# Altium schematic symbol library Demo.SchLib: 24 symbols
Pins are listed as number, name and electrical type; pins without a type are passive.

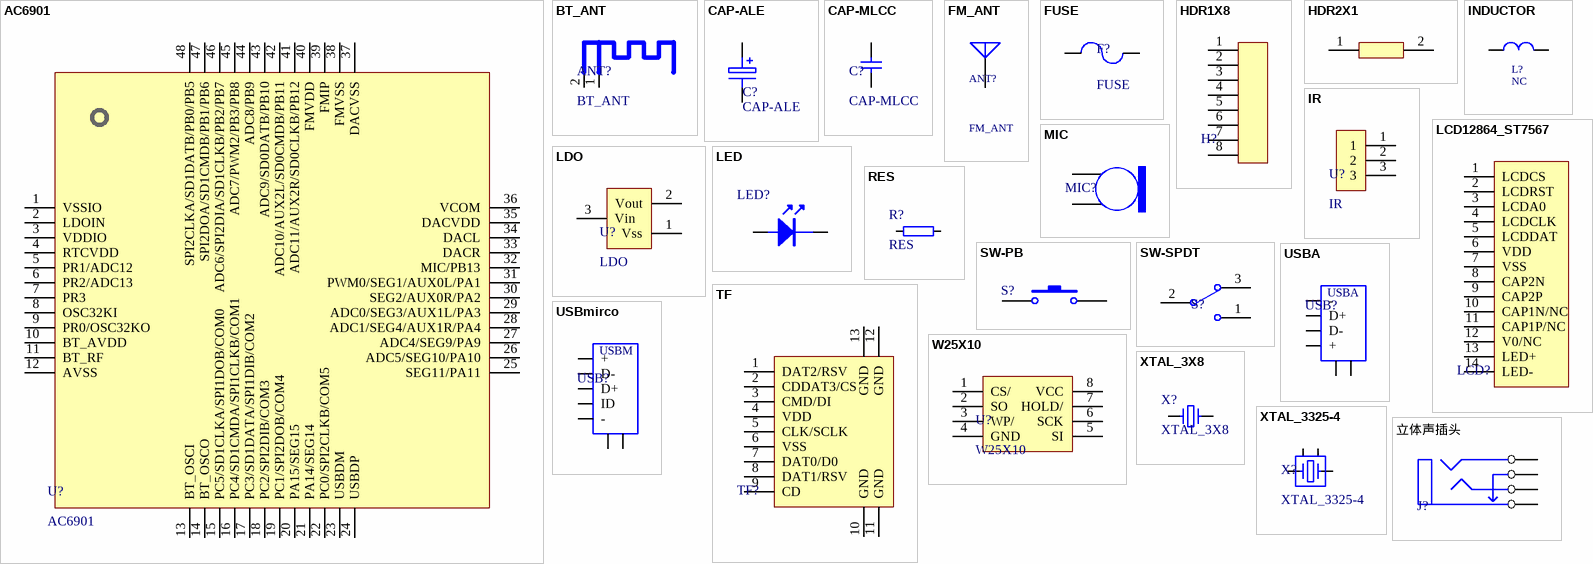
[diagram p0: symbols AC6901 to 立体声插头]

## AC6901
designator U?
footprint LQPF48
pins: 1 VSSIO (power), 2 LDOIN (power), 3 VDDIO, 4 RTCVDD, 5 PR1/ADC12, 6 PR2/ADC13, 7 PR3, 8 OSC32KI, 9 PR0/OSC32KO, 10 BT_AVDD, 11 BT_RF, 12 AVSS, 13 BT_OSCI, 14 BT_OSCO, 15 PC5/SD1CLKA/SPI1DOB/COM0, 16 PC4/SD1CMDA/SPI1CLKB/COM1, 17 PC3/SD1DATA/SPI1DIB/COM2, 18 PC2/SPI2DIB/COM3, 19 PC1/SPI2DOB/COM4, 20 PA15/SEG15, 21 PA14/SEG14, 22 PC0/SPI2CLKB/COM5, 23 USBDM, 24 USBDP, 25 SEG11/PA11, 26 ADC5/SEG10/PA10, 27 ADC4/SEG9/PA9, 28 ADC1/SEG4/AUX1R/PA4, 29 ADC0/SEG3/AUX1L/PA3, 30 SEG2/AUX0R/PA2, 31 PWM0/SEG1/AUX0L/PA1, 32 MIC/PB13, 33 DACR, 34 DACL, 35 DACVDD, 36 VCOM, 37 DACVSS, 38 FMVSS, 39 FMIP, 40 FMVDD, 41 ADC11/AUX2R/SD0CLKB/PB12, 42 ADC10/AUX2L/SD0CMDB/PB11, 43 ADC9/SD0DATB/PB10, 44 ADC8/PB9, 45 ADC7/PWM2/PB3/PB8, 46 ADC6/SPI2DIA/SD1CLKB/PB2/PB7, 47 SPI2DOA/SD1CMDB/PB1/PB6, 48 SPI2CLKA/SD1DATB/PB0/PB5

## BT_ANT
designator ANT?
footprint ANT-F-2-2.4G
pins: 1, 2

## CAP-ALE
designator C?
footprint CTan(6032) (长6.0mm，宽3.2mm，厚2.5mm)
pins: 1, 2

## CAP-MLCC
designator C?
footprint C 0805 (无极性贴片电容)
pins: 1, 2

## FM_ANT
designator ANT?
footprint FM_ANT
pins: 1

## FUSE
designator F?
footprint F1808
pins: 1, 2

## HDR1X8
designator H?  (value not drawn)
footprint HDR1X8
pins: 1, 2, 3, 4, 5, 6, 7, 8

## HDR2X1
designator H?  (value not drawn)
footprint HDR2X1
pins: 1, 2

## INDUCTOR
designator L?, comment NC
footprint L 0805 (小功率贴片电感)
pins: 1, 2

## IR
designator U?
footprint IR
pins: 1, 2, 3

## LCD12864_ST7567
designator LCD?  (value not drawn)
footprint FPC-SMD_P0.80-14P
pins: 1 LCDCS, 2 LCDRST, 3 LCDA0, 4 LCDCLK, 5 LCDDAT, 6 VDD, 7 VSS, 8 CAP2N, 9 CAP2P, 10 CAP1N/NC, 11 CAP1P/NC, 12 V0/NC, 13 LED+, 14 LED-

## LDO
designator U?
footprint SOT23-3L (3x1.3x1mm(长宽高))
pins: 1 Vss, 2 Vout, 3 Vin

## LED
designator LED?  (value not drawn)
footprint LED 0805B (蓝色0805LED                                    淘宝ID:黄晶宝石)
pins: 1, 2

## MIC
designator MIC?  (value not drawn)
footprint MIC
pins: 1 (power), 2 (power)

## RES
designator R?
footprint R 0805 (1/8W贴片电阻)
pins: 1, 2

## SW-PB
designator S?  (value not drawn)
Published: 24-Mar-1999; LatestRevisionDate: 17-Jul-2002; LatestRevisionNote: Re-released for DXP Platform.; PackageReference: SPST-2; Publisher: Altium Limited
footprint TSW SMD-3*6*2.5 (3*6*2.5mm)
pins: 1, 2

## SW-SPDT
designator S?  (value not drawn)
Published: 24-Mar-1999; LatestRevisionDate: 17-Dec-2003; LatestRevisionNote: Schematic revised, PCB Footprint replaced.; DatasheetDocument: 05-Dec-2000; PackageReference: TL36WW15050; Publisher: Altium Limited; ComponentLink1Description: Manufacturer Link; ComponentLink1URL: http://www.apem.com
footprint MSK-12C01-07 (拨动开关6.7*2.8*1.5mm(长宽高）)
pins: 1, 2, 3

## TF
designator TF?  (value not drawn)
footprint TF
pins: 1 DAT2/RSV, 2 CDDAT3/CS, 3 CMD/DI, 4 VDD, 5 CLK/SCLK, 6 VSS, 7 DAT0/D0, 8 DAT1/RSV, 9 CD, 10 GND, 11 GND, 12 GND, 13 GND

## USBA
designator USB?  (value not drawn)
footprint USB-A
pins: 1 +, 2 D-, 3 D+, 4 -, 5 GND, 5 GND

## USBmirco
designator USB?  (value not drawn)
footprint USB_micro (micro型USB ，5.7*7.8*2.5mm)
pins: 1 +, 2 D-, 3 D+, 4 ID, 5 -, GND, GND
text: USBM

## W25X10
designator U?
footprint SOIC8
pins: 1 CS/, 2 SO, 3 WP/, 4 GND, 5 SI, 6 SCK, 7 HOLD/, 8 VCC

## XTAL_3X8
designator X?
footprint XTAL_3X8 (脚距：2mm)
pins: 1, 2

## XTAL_3325-4
designator X?
footprint XTAL_3225-4P (3.2*2.5*0.7mm(长宽高))
pins: 1, 2, 3, 4

## 立体声插头
designator J?, comment 3.5mm  (value not drawn)
footprint AUX-3.5
pins: 1, 2, 3, 4